# Altium footprint library LibTim_Semiconductors.PcbLib: 6 footprints
Each footprint in its own frame and in the unit in brackets; x right, y up, seen from the top. Pads: shape width x height; smd on the part's side, far side on the other; paste and mask are expansions set on the pad; w line width, h text height; cw(c..) or ccw(c..) is an arc to the next point about the centre after c.
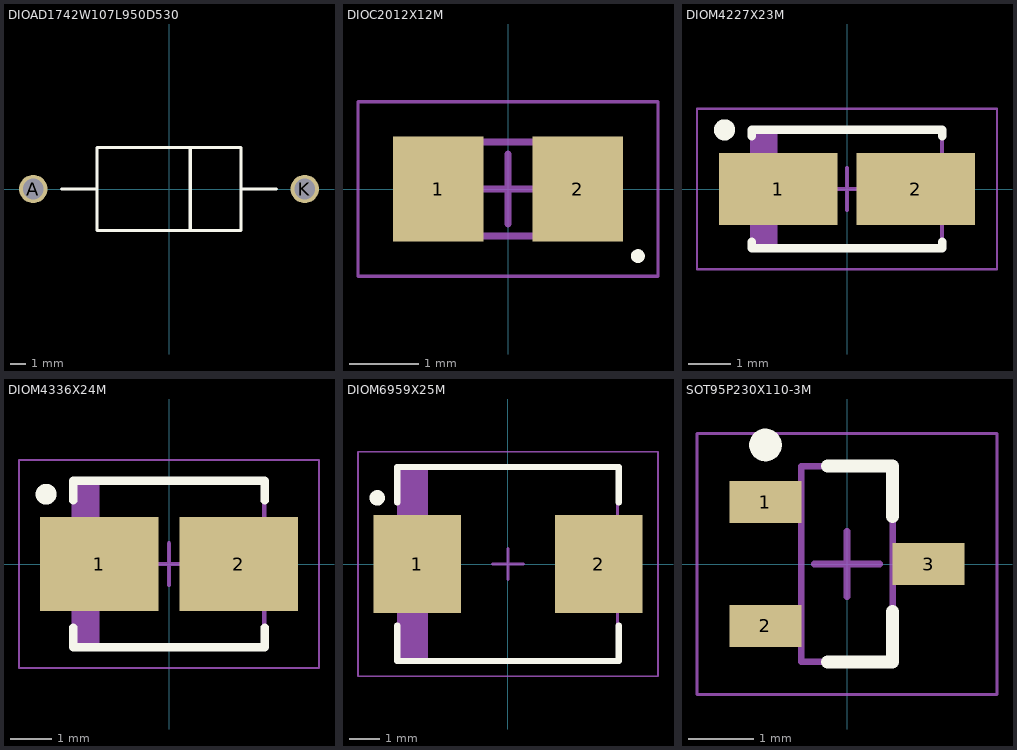
[diagram p0: the footprints below, top view; thin cyan lines are the x and y axes]

## DIOAD1742W107L950D530 [mm]
pads (2):
  round 1.82 / inner round 2.32 / far side round 1.82 hole 1.32: A(-8.71,0) K(8.71,0)
Top Overlay:
  lines w0.2: -6.89,0 -4.625,0 ; 1.362,-2.65 1.362,2.65 ; 4.625,0 6.89,0 ; -4.625,0 -4.625,2.65 4.625,2.65 4.625,-2.65 -4.625,-2.65 -4.625,0

## DIOC2012X12M [mm] "Chip Diode, 2-Leads, Body 2.00x1.25mm, IPC Low Density"
height 1.2
pads (2):
  rect 1.3x1.5 smd: 1(-1,0) 2(1,0)
Top Overlay:
  circle w0.1: c1.862,-0.962 r0.05
Mechanical 13:
  lines w0.1: -1.05,-0.675 1.05,-0.675 1.05,0.675 -1.05,0.675 -1.05,-0.675
Mechanical 15:
  lines w0.05: -2.15,-1.25 2.15,-1.25 2.15,1.25 -2.15,1.25 -2.15,-1.25
  lines w0.1: -0.5,0 0.5,0 ; 0,-0.5 0,0.5
3D body: height 1.2, standoff 0, extent 0.55,-0.675 1.05,0.675
3D body: height 1.2, standoff 0, extent -1.05,-0.675 -0.55,0.675
3D body: height 1.2, standoff 0, extent -0.55,-0.675 0.55,0.675

## DIOM4227X23M [mm] "Molded Diode, 2-Leads, Body 4.25x2.67mm, IPC Low Density"
height 2.29
pads (2):
  rect 2.8x1.7 smd: 1(-1.625,0) 2(1.625,0)
Top Overlay:
  circle w0.25: c-2.9,1.4 r0.125
  lines w0.2: -2.25,-1.25 -2.25,-1.4 2.25,-1.4 2.25,-1.25 ; -2.25,1.25 -2.25,1.4 2.25,1.4 2.25,1.25
Mechanical 13:
  rectangle: -2.25,-1.395 -1.645,1.395
  lines w0.1: -2.25,-1.395 -2.25,1.395 2.25,1.395 2.25,-1.395 -2.25,-1.395
Mechanical 15:
  lines w0.05: -3.55,-1.9 -3.55,1.9 3.55,1.9 3.55,-1.9 -3.55,-1.9
  lines w0.1: -0.5,0 0.5,0 ; 0,-0.5 0,0.5
3D body: height 2.29, standoff 0, extent -2.25,-1.395 2.25,1.395

## DIOM4336X24M [mm] "Molded Diode, 2-Leads, Body 4.31x3.62mm, IPC Low Density"
height 2.44
pads (2):
  rect 2.85x2.25 smd: 1(-1.675,0) 2(1.675,0)
Top Overlay:
  circle w0.25: c-2.95,1.675 r0.125
  lines w0.2: -2.3,-1.525 -2.3,-2 2.3,-2 2.3,-1.525 ; -2.3,1.525 -2.3,2 2.3,2 2.3,1.525
Mechanical 13:
  rectangle: -2.285,-1.97 -1.67,1.97
  lines w0.1: -2.285,-1.97 -2.285,1.97 2.285,1.97 2.285,-1.97 -2.285,-1.97
Mechanical 15:
  lines w0.05: -3.6,-2.5 -3.6,2.5 3.6,2.5 3.6,-2.5 -3.6,-2.5
  lines w0.1: -0.5,0 0.5,0 ; 0,-0.5 0,0.5
3D body: height 2.44, standoff 0, extent -2.285,-1.97 2.285,1.97

## DIOM6959X25M [mm] "Molded Diode, 2-Leads, Body 6.85x5.90mm, IPC Low Density"
height 2.5
pads (2):
  rect 2.85x3.2 smd: 1(-2.95,0) 2(2.95,0)
Top Overlay:
  circle w0.25: c-4.25,2.15 r0.125
  lines w0.2: -3.6,-2 -3.6,-3.15 3.6,-3.15 3.6,-2 ; -3.6,2 -3.6,3.15 3.6,3.15 3.6,2
Mechanical 13:
  rectangle: -3.555,-3.11 -2.599,3.11
  lines w0.1: -3.555,-3.11 3.555,-3.11 3.555,3.11 -3.555,3.11 -3.555,-3.11
Mechanical 15:
  lines w0.05: -4.875,-3.65 4.875,-3.65 4.875,3.65 -4.875,3.65 -4.875,-3.65
  lines w0.1: -0.5,0 0.5,0 ; 0,-0.5 0,0.5
3D body: height 2.5, standoff 0, extent -3.555,-3.11 3.555,3.11

## SOT95P230X110-3M [mm] "SOT23, 3-Leads, Body 2.90x2.30mm, Pitch 0.95mm, IPC Low Density"
height 1.1
pads (3):
  rect 1.1x0.65 smd: 1(-1.25,0.95) 2(-1.25,-0.95) 3(1.25,0)
Top Overlay:
  circle w0.25: c-1.25,1.825 r0.125
  lines w0.2: -0.3,-1.5 0.7,-1.5 0.7,-0.725 ; -0.3,1.5 0.7,1.5 0.7,0.725
Mechanical 13:
  lines w0.1: -0.7,-1.5 0.7,-1.5 0.7,1.5 -0.7,1.5 -0.7,-1.5
Mechanical 15:
  lines w0.05: -2.3,-2 2.3,-2 2.3,2 -2.3,2 -2.3,-2
  lines w0.1: -0.5,0 0.5,0 ; 0,-0.5 0,0.5
3D body: height 1.1, standoff 0.1, extent -0.7,-1.5 0.7,1.5